# EAGLE library part PGA2311 (library common)
High-Performance stereo volume control with SPI control
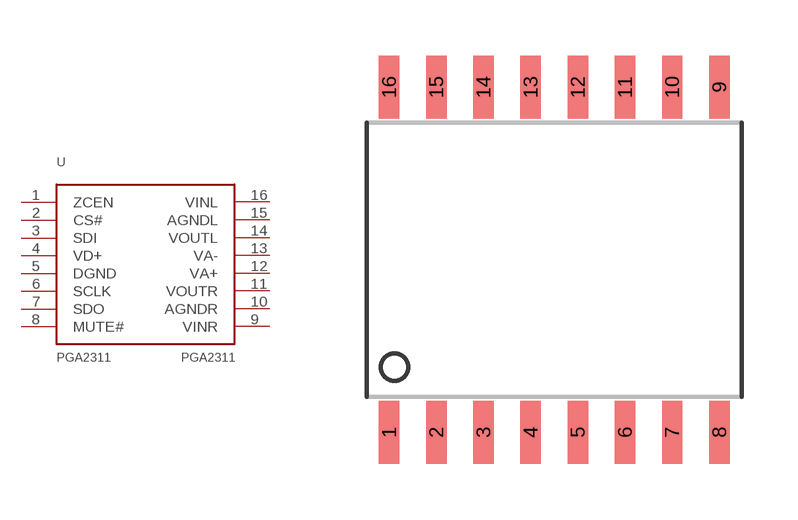
[diagram p19: symbol with the pads of R-PDSO-G16; footprint R-PDSO-G16]

Designator prefix U

## PGA2311  [R-PDSO-G16]
1  ZCEN
2  CS#
3  SDI
4  VD+
5  DGND
6  SCLK
7  SDO
8  MUTE#
9  VINR
10  AGNDR
11  VOUTR
12  VA+
13  VA-
14  VOUTL
15  AGNDL
16  VINL

## Footprint R-PDSO-G16 (pad centres in mm)
smd 0.55 x 1.7: 1 -4.445,-4.65; 2 -3.175,-4.65; 3 -1.905,-4.65; 4 -0.635,-4.65; 5 0.635,-4.65; 6 1.905,-4.65; 7 3.175,-4.65; 8 4.445,-4.65; 9 4.445,4.65; 10 3.175,4.65; 11 1.905,4.65; 12 0.635,4.65; 13 -0.635,4.65; 14 -1.905,4.65; 15 -3.175,4.65; 16 -4.445,4.65